# Altium footprint library openmv-stm32n.PcbLib: 58 footprints (part 4 of 4)
Each footprint in its own frame and in the unit in brackets; x right, y up, seen from the top. Pads: shape width x height; smd on the part's side, far side on the other; paste and mask are expansions set on the pad; w line width, h text height; cw(c..) or ccw(c..) is an arc to the next point about the centre after c.
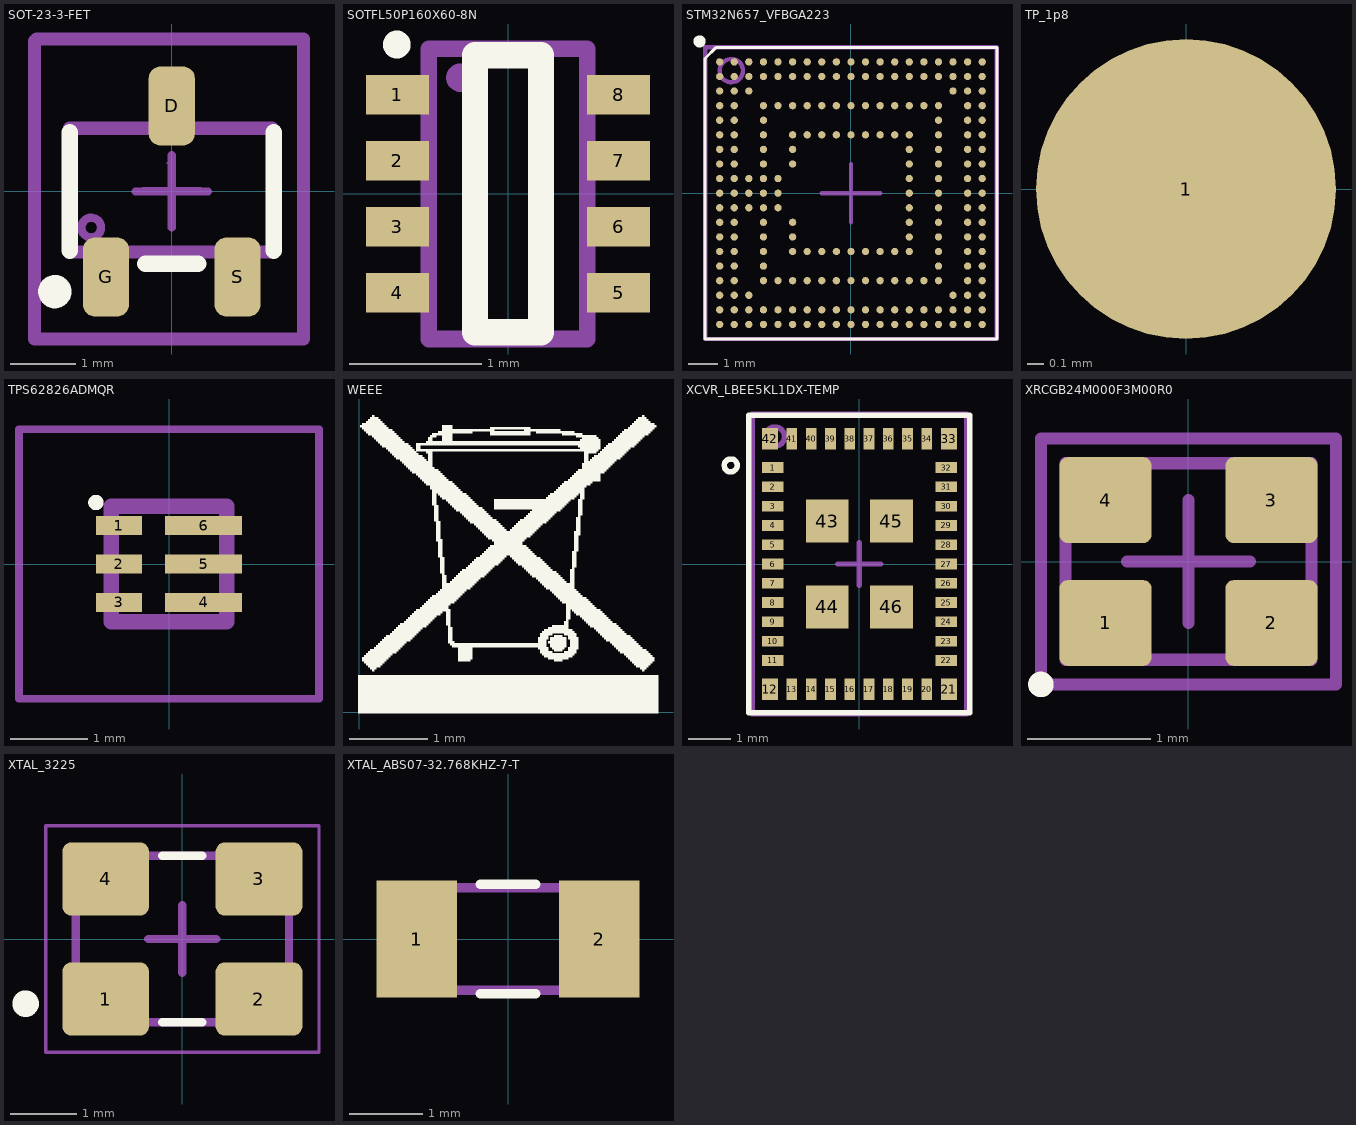
[diagram p3: the footprints below, top view; thin cyan lines are the x and y axes]

## SOT-23-3-FET [mm]
height 1.295
pads (3):
  rrect50% 0.7x1.2 smd: D(0,1.3) G(-1,-1.3) S(1,-1.3)
Top Overlay:
  circle w0.254: c-1.778,-1.524 r0.127
  lines w0.254: -1.55,-0.9 -1.55,0.9 ; -0.4,-1.1 0.4,-1.1 ; 1.55,-0.9 1.55,0.9
Top 3D Body (Mech13):
  circle w0.127: c-1.225,-0.55 r0.15
  lines w0.127: -0.432,0 0,0 ; 0,-0.432 0,0 ; 0,0.432 0,0 ; 0.432,0 0,0
  lines w0.2: -1.557,-0.931 -1.557,0.961 1.524,0.961 1.549,0.936 1.549,-0.916 1.557,-0.923 -1.549,-0.923 -1.557,-0.931
  text ".designator" at -1.346,0.406 h0.4
Mechanical 15:
  lines w0.003: -0.076,0.429 -0.025,0.48
  lines w0.125: -0.55,0 0,0 ; 0,-0.55 0,0 ; 0,0.55 0,0 ; 0.55,0 0,0
  lines w0.2: -2.085,2.285 -2.085,-2.244 2.001,-2.244 2.001,2.318 -2.052,2.318
3D body "SOT23-3.stp": height 1.11, standoff -0.07, extent -1.5,-1.418 1.5,1.418

## SOTFL50P160X60-8N [mm] "SOTFL50P160X60-8N"
height 2.5
pads (8):
  rect 0.475x0.3 smd: 1(-0.838,0.75) 2(-0.838,0.25) 3(-0.838,-0.25) 4(-0.838,-0.75) 5(0.838,-0.75) 6(0.838,-0.25) 7(0.838,0.25) 8(0.838,0.75)
Top Overlay:
  circle w0.127: c-0.843,1.131 r0.042
  lines w0.2: -0.25,-1.05 -0.25,1.05 0.25,1.05 0.25,-1.05 -0.25,-1.05
Top 3D Body (Mech13):
  circle w0.127: c-0.361,0.88 r0.044
  lines w0.127: -0.6,-1.1 0.6,-1.1 0.6,1.1 -0.6,1.1 -0.6,-1.1
  text ".designator" at 0.75,-1.1 h0.64
3D body: height 0.6, standoff 0, extent -0.6,-1.1 0.6,1.1

## STM32N657_VFBGA223 [mm]
height 2.5
pads (223):
  round 0.25 smd mask+0.051: A1(-4.5,4.5) A2(-4,4.5) A3(-3.5,4.5) A4(-3,4.5) A5(-2.5,4.5) A6(-2,4.5) A7(-1.5,4.5) A8(-1,4.5) A9(-0.5,4.5) A10(0,4.5) A11(0.5,4.5) A12(1,4.5) A13(1.5,4.5) A14(2,4.5) A15(2.5,4.5) A16(3,4.5) A17(3.5,4.5) A18(4,4.5) A19(4.5,4.5) B1(-4.5,4) B2(-4,4) B3(-3.5,4) B4(-3,4) B5(-2.5,4) B6(-2,4) B7(-1.5,4) B8(-1,4) B9(-0.5,4) B10(0,4) B11(0.5,4) B12(1,4) B13(1.5,4) B14(2,4) B15(2.5,4) B16(3,4) B17(3.5,4) B18(4,4) B19(4.5,4) C1(-4.5,3.5) C2(-4,3.5) C3(-3.5,3.5) C17(3.5,3.5) C18(4,3.5) C19(4.5,3.5) D1(-4.5,3) D2(-4,3) D4(-3,3) D5(-2.5,3) D6(-2,3) D7(-1.5,3) D8(-1,3) D9(-0.5,3) D10(0,3) D11(0.5,3) D12(1,3) D13(1.5,3) D14(2,3) D15(2.5,3) D16(3,3) D18(4,3) D19(4.5,3) E1(-4.5,2.5) E2(-4,2.5) E4(-3,2.5) E16(3,2.5) E18(4,2.5) E19(4.5,2.5) F1(-4.5,2) F2(-4,2) F4(-3,2) F6(-2,2) F7(-1.5,2) F8(-1,2) F9(-0.5,2) F10(0,2) F11(0.5,2) F12(1,2) F13(1.5,2) F14(2,2) F16(3,2) F18(4,2) F19(4.5,2) G1(-4.5,1.5) G2(-4,1.5) G4(-3,1.5) G6(-2,1.5) G14(2,1.5) G16(3,1.5) G18(4,1.5) G19(4.5,1.5) H1(-4.5,1) H2(-4,1) H4(-3,1) H6(-2,1) H14(2,1) H16(3,1) H18(4,1) H19(4.5,1) J1(-4.5,0.5) J2(-4,0.5) J3(-3.5,0.5) J4(-3,0.5) J5(-2.5,0.5) J14(2,0.5) J16(3,0.5) J18(4,0.5) J19(4.5,0.5) K1(-4.5,0) K2(-4,0) K3(-3.5,0) K4(-3,0) K5(-2.5,0) K14(2,0) K16(3,0) K18(4,0) K19(4.5,0) L1(-4.5,-0.5) L2(-4,-0.5) L3(-3.5,-0.5) L4(-3,-0.5) L5(-2.5,-0.5) L14(2,-0.5) L16(3,-0.5) L18(4,-0.5) L19(4.5,-0.5) M1(-4.5,-1) M2(-4,-1) M4(-3,-1) M6(-2,-1) M14(2,-1) M16(3,-1) M18(4,-1) M19(4.5,-1) N1(-4.5,-1.5) N2(-4,-1.5) N4(-3,-1.5) N6(-2,-1.5) N14(2,-1.5) N16(3,-1.5) N18(4,-1.5) N19(4.5,-1.5) P1(-4.5,-2) P2(-4,-2) P4(-3,-2) P6(-2,-2) P7(-1.5,-2) P8(-1,-2) P9(-0.5,-2) P10(0,-2) P11(0.5,-2) P12(1,-2) P13(1.5,-2) P14(2,-2) P16(3,-2) P18(4,-2) P19(4.5,-2) R1(-4.5,-2.5) R2(-4,-2.5) R4(-3,-2.5) R16(3,-2.5) R18(4,-2.5) R19(4.5,-2.5) T1(-4.5,-3) T2(-4,-3) T4(-3,-3) T5(-2.5,-3) T6(-2,-3) T7(-1.5,-3) T8(-1,-3) T9(-0.5,-3) T10(0,-3) T11(0.5,-3) T12(1,-3) T13(1.5,-3) T14(2,-3) T15(2.5,-3) T16(3,-3) T18(4,-3) T19(4.5,-3) U1(-4.5,-3.5) U2(-4,-3.5) U3(-3.5,-3.5) U17(3.5,-3.5) U18(4,-3.5) U19(4.5,-3.5) V1(-4.5,-4) V2(-4,-4) V3(-3.5,-4) V4(-3,-4) V5(-2.5,-4) V6(-2,-4) V7(-1.5,-4) V8(-1,-4) V9(-0.5,-4) V10(0,-4) V11(0.5,-4) V12(1,-4) V13(1.5,-4) V14(2,-4) V15(2.5,-4) V16(3,-4) V17(3.5,-4) V18(4,-4) V19(4.5,-4) W1(-4.5,-4.5) W2(-4,-4.5) W3(-3.5,-4.5) W4(-3,-4.5) W5(-2.5,-4.5) W6(-2,-4.5) W7(-1.5,-4.5) W8(-1,-4.5) W9(-0.5,-4.5) W10(0,-4.5) W11(0.5,-4.5) W12(1,-4.5) W13(1.5,-4.5) W14(2,-4.5) W15(2.5,-4.5) W16(3,-4.5) W17(3.5,-4.5) W18(4,-4.5) W19(4.5,-4.5)
Top Overlay:
  circle w0.254: c-5.189,5.203 r0.082
  lines w0.1: -5,-5 -5,4.615 -4.615,5 5,5 5,-5 -5,-5
Top 3D Body (Mech13):
  circle w0.15: c-4.1,4.2 r0.4
  lines w0.15: -1,0 0,0 ; 0,-1 0,0 ; 0,1 0,0 ; 1,0 0,0 ; -5,-5 -5,5 5,5 5,-5 -5,-5
  text ".designator" at -4.546,-5.47 h0.89
3D body: height 1, standoff 0, extent -5,-5 5,5

## TP_1p8 [mm]
height 2.5
pads (1):
  round 1.8 smd paste-2: 1(0,0)

## TPS62826ADMQR [mm]
height 2.5
pads (6):
  rect 0.6x0.25 smd mask+0.05: 1(-0.65,0.5) 2(-0.65,0) 3(-0.65,-0.5)
  rect 1x0.25 smd mask+0.05: 4(0.45,-0.5) 5(0.45,0) 6(0.45,0.5)
Top Overlay:
  lines w0.1: -1,0.8 cw(c-0.95,0.8) -0.9,0.8 cw(c-0.95,0.8) -1,0.8
Top Courtyard:
  lines w0.2: -0.75,-0.75 0.75,-0.75 0.75,0.75 -0.75,0.75 -0.75,-0.75
Top 3D Body (Mech13):
  lines w0.076: -0.763,-0.734 -0.763,0.735 0.731,0.735 0.731,-0.734 -0.763,-0.734
  text ".designator" at -0.7,-0.711 h0.51
Mechanical 20:
  lines w0.1: -1.95,-1.75 1.95,-1.75 1.95,1.75 -1.95,1.75 -1.95,-1.75
3D body: height 0.5, standoff 0, extent -0.76,-0.74 0.734,0.738

## WEEE [mm] "WEEE"
height 2.5
Top Overlay:
  drawing of 457 lines, arcs and shapes, not listed

## XCVR_LBEE5KL1DX-TEMP [mm] "XCVR_LBEE5KL1DX-TEMP"
height 2.5
pads (46):
  rect 0.5x0.25 smd mask+0.05: 1(-2.025,2.25) 2(-2.025,1.8) 3(-2.025,1.35) 4(-2.025,0.9) 5(-2.025,0.45) 6(-2.025,0) 7(-2.025,-0.45) 8(-2.025,-0.9) 9(-2.025,-1.35) 10(-2.025,-1.8) 11(-2.025,-2.25) 22(2.025,-2.25) 23(2.025,-1.8) 24(2.025,-1.35) 25(2.025,-0.9) 26(2.025,-0.45) 27(2.025,0) 28(2.025,0.45) 29(2.025,0.9) 30(2.025,1.35) 31(2.025,1.8) 32(2.025,2.25)
  rect 0.375x0.5 smd mask+0.05: 12(-2.088,-2.925) 21(2.088,-2.925) 33(2.088,2.925) 42(-2.088,2.925)
  rect 0.25x0.5 smd mask+0.05: 13(-1.575,-2.925) 14(-1.125,-2.925) 15(-0.675,-2.925) 16(-0.225,-2.925) 17(0.225,-2.925) 18(0.675,-2.925) 19(1.125,-2.925) 20(1.575,-2.925) 34(1.575,2.925) 35(1.125,2.925) 36(0.675,2.925) 37(0.225,2.925) 38(-0.225,2.925) 39(-0.675,2.925) 40(-1.125,2.925) 41(-1.575,2.925)
  rect 1x1 smd mask+0.05: 43(-0.75,1) 44(-0.75,-1) 45(0.75,1) 46(0.75,-1)
Top Overlay:
  circle w0.127: c-3,2.3 r0.15
  lines w0.127: -2.575,-3.475 2.575,-3.475 2.575,3.475 -2.575,3.475 -2.575,-3.475
Top 3D Body (Mech13):
  circle w0.127: c-1.968,2.973 r0.224
  lines w0.127: -0.5,0 0,0 ; 0,-0.5 0,0 ; 0,0.5 0,0 ; 0.5,0 0,0 ; -2.5,-3.5 -2.5,3.5 2.5,3.5 2.5,-3.5 -2.5,-3.5
3D body: height 1.1, standoff 0, extent -2.5,-3.5 2.5,3.5

## XRCGB24M000F3M00R0 [mm] "XRCGB24M000F3M00R0"
height 2.5
pads (4):
  rrect20% 0.75x0.7 smd mask+0.05: 1(-0.675,-0.5) 2(0.675,-0.5) 3(0.675,0.5) 4(-0.675,0.5)
Top Overlay:
  circle w0.127: c-1.2,-1 r0.04
Top 3D Body (Mech13):
  circle w0.1: c-0.6,-0.4 r0.1
  lines w0.1: -0.5,0 0,0 ; 0,-0.5 0,0 ; 0,0.5 0,0 ; 0.5,0 0,0 ; 0,0 0,0 ; -1,-0.8 -1,0.8 1,0.8 1,-0.8 -1,-0.8
  text ".designator" at -0.8,1 h0.4
Mechanical 15:
  circle w0.1: c-0.6,-0.4 r0.1
  lines w0.1: -0.5,0 0,0 ; 0,-0.5 0,0 ; 0,0.5 0,0 ; 0.5,0 0,0 ; 0,0 0,0 ; -1.2,-1 1.2,-1 1.2,1 -1.2,1 -1.2,-1
3D body: height 0.65, standoff 0, extent -1,-0.8 1,0.8

## XTAL_3225 [mm]
height 2.5
pads (4):
  rrect25% 1.3x1.1 smd: 1(-1.15,-0.9) 2(1.15,-0.9) 3(1.15,0.9) 4(-1.15,0.9)
Top Overlay:
  circle w0.2: c-2.35,-0.97 r0.1
  lines w0.127: -0.3,-1.25 0.3,-1.25 ; -0.3,1.25 0.3,1.25
Top 3D Body (Mech13):
  circle w0.2: c-1.143,-0.889 r0.1
  lines w0.127: -0.508,0 0,0 ; 0,-0.508 0,0 ; 0,0.508 0,0 ; 0.508,0 0,0 ; 0,0 0,0 ; -1.6,-1.25 -1.6,1.25 1.6,1.25 1.6,-1.25 -1.6,-1.25
  text ".designator" at -1.15,0.35 h0.64
Mechanical 15:
  lines w0.05: -2.05,-1.7 -2.05,1.7 2.05,1.7 2.05,-1.7 -2.05,-1.7
3D body "step_temp.STEP": height 0.8, standoff 0, extent -1.6,-1.25 1.6,1.25

## XTAL_ABS07-32.768KHZ-7-T [mm] "XTAL_ABS07-32.768KHZ-7-T"
height 2.5
pads (2):
  rect 1.1x1.6 smd: 1(-1.25,0) 2(1.25,0)
Top Overlay:
  lines w0.127: -0.38,-0.75 0.38,-0.75 ; -0.38,0.75 0.38,0.75
Top 3D Body (Mech13):
  lines w0.127: -1.6,-0.7 1.6,-0.7 1.6,0.7 -1.6,0.7 -1.6,-0.7
  text ".designator" at -1.4,-0.85 h0.64
3D body: height 1, standoff 0, extent -1.6,-0.7 1.6,0.7